# Altium schematic symbol library ic_power.SchLib: 11 symbols
Pins are listed as number, name and electrical type; pins without a type are passive.

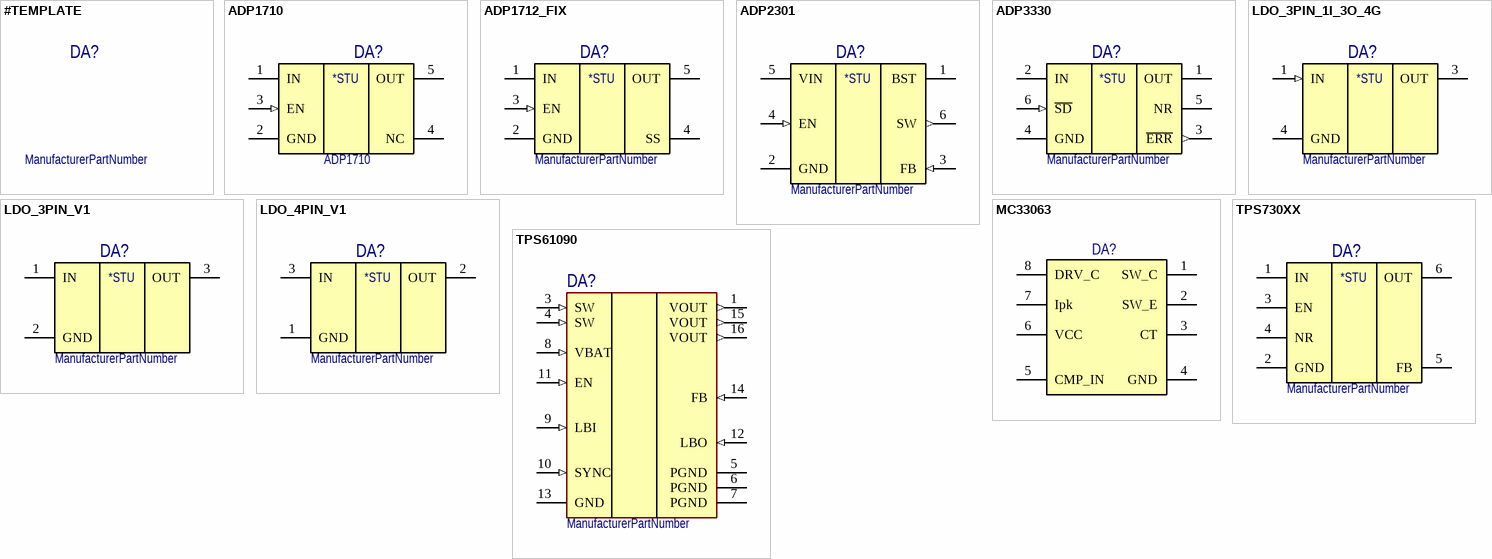
[diagram p0: symbols #TEMPLATE to TPS61090]

## #TEMPLATE
designator DA?
ManufacturerPartNumber: ManufacturerPartNumber

## ADP1710
designator DA?
ValueBOM: ADP1710AUJZ-0.8-R7   Analog Devices; ValueSCH: ADP1710
pins: 1 IN (power), 2 GND (power), 3 EN (in), 4 NC, 5 OUT (power)
text: *STU

## ADP1712_FIX
designator DA?
ManufacturerPartNumber: ManufacturerPartNumber
pins: 1 IN (power), 2 GND (power), 3 EN (in), 4 SS, 5 OUT (power)
text: *STU

## ADP2301
designator DA?
ManufacturerPartNumber: ManufacturerPartNumber
pins: 1 BST, 2 GND (power), 3 FB (in), 4 EN (in), 5 VIN (power), 6 SW (out)
text: *STU

## ADP3330
designator DA?
ManufacturerPartNumber: ManufacturerPartNumber
pins: 1 OUT (power), 2 IN (power), 3 ~{ERR} (out), 4 GND (power), 5 NR, 6 ~{SD} (in)
text: *STU

## LDO_3PIN_1I_3O_4G
designator DA?
ManufacturerPartNumber: ManufacturerPartNumber
pins: 1 IN (in), 3 OUT (power), 4 GND (power)
text: *STU

## LDO_3PIN_V1
designator DA?
ManufacturerPartNumber: ManufacturerPartNumber
pins: 1 IN (power), 2 GND (power), 3 OUT (power)
text: *STU

## LDO_4PIN_V1
designator DA?
ManufacturerPartNumber: ManufacturerPartNumber
pins: 1 GND (power), 2 OUT (power), 3 IN (power), 4 hidden
text: *STU

## MC33063
designator DA?
pins: 1 SW_C, 2 SW_E, 3 CT, 4 GND, 5 CMP_IN, 6 VCC, 7 Ipk, 8 DRV_C

## TPS730XX
designator DA?
ManufacturerPartNumber: ManufacturerPartNumber
pins: 1 IN (power), 2 GND (power), 3 EN, 4 NR, 5 FB, 6 OUT (power)
text: *STU

## TPS61090
designator DA?
ManufacturerPartNumber: ManufacturerPartNumber
pins: 1 VOUT (out), 3 SW (in), 4 SW (in), 5 PGND (power), 6 PGND (power), 7 PGND (power), 8 VBAT (in), 9 LBI (in), 10 SYNC (in), 11 EN (in), 12 LBO (in), 13 GND (power), 14 FB (in), 15 VOUT (out), 16 VOUT (out)